# EAGLE library part SUS3 (library 180118 Library by matsu)
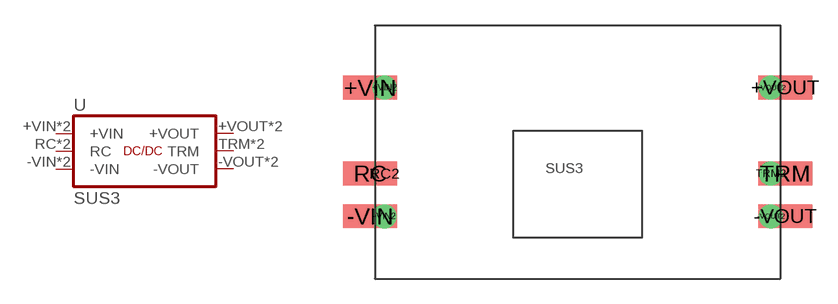
[diagram p50: symbol with the pads of SUS3R5; footprint SUS3R5]

Designator prefix -

## SUS30512  [SUS3R5]
+VIN  +VIN  pas
+VIN2  +VIN  pas
+VOUT  +VOUT  pas
+VOUT2  +VOUT  pas
-VIN  -VIN  pas
-VIN2  -VIN  pas
-VOUT  -VOUT  pas
-VOUT2  -VOUT  pas
RC  RC  pas
RC2  RC  pas
TRM  TRM  pas
TRM2  TRM  pas

## Footprint SUS3R5 (pad centres in mm)
smd 3.2 x 1.4: +VIN -12.28,3.81; +VOUT 12.28,3.81; -VIN -12.28,-3.81; -VOUT 12.28,-3.81; RC -12.28,-1.27; TRM 12.28,-1.27
drill 0.9: +VIN2 -11.43,3.81; +VOUT2 11.43,3.81; -VIN2 -11.43,-3.81; -VOUT2 11.43,-3.81; RC2 -11.43,-1.27; TRM2 11.43,-1.27